# EAGLE library part MCP7940MT-I/MNY (library RTC)
RTC, I2C, 64BYTES SRAM, 8TDFN
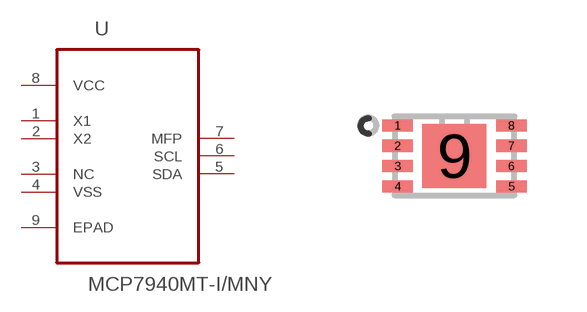
[diagram p0: symbol with the pads of TDFN300X200X80-9N; footprint TDFN300X200X80-9N]

Designator prefix U

## MCP7940MT-I/MNY (MPN: MCP7940MT-I/MNY; OC_FARNELL: 2098893; OC_NEWARK: 79T6326; PACKAGE: TDFN-8; SUPPLIER: Microchip)  [TDFN300X200X80-9N]
1  X1  in
2  X2  in
3  NC  nc
4  VSS  pwr
5  SDA  pas
6  SCL  pas
7  MFP  pas
8  VCC  pwr
9  EPAD  pas

## Footprint TDFN300X200X80-9N (pad centres in mm)
smd 0.762 x 0.305: 1 -1.422,0.762; 2 -1.422,0.254; 3 -1.422,-0.254; 4 -1.422,-0.762; 5 1.422,-0.762; 6 1.422,-0.254; 7 1.422,0.254; 8 1.422,0.762
smd 1.6 x 1.6: 9 0,0